# Altium schematic symbol library Boost.SchLib: 1 symbol
Pins are listed as number, name and electrical type; pins without a type are passive.

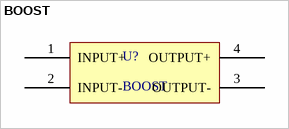
[diagram p0: symbol BOOST]

## BOOST
designator U?
pins: 1 INPUT+, 2 INPUT-, 3 OUTPUT-, 4 OUTPUT+